# Altium schematic symbol library FMCW-Radar-v1.SchLib: 60 symbols (part 2 of 3)
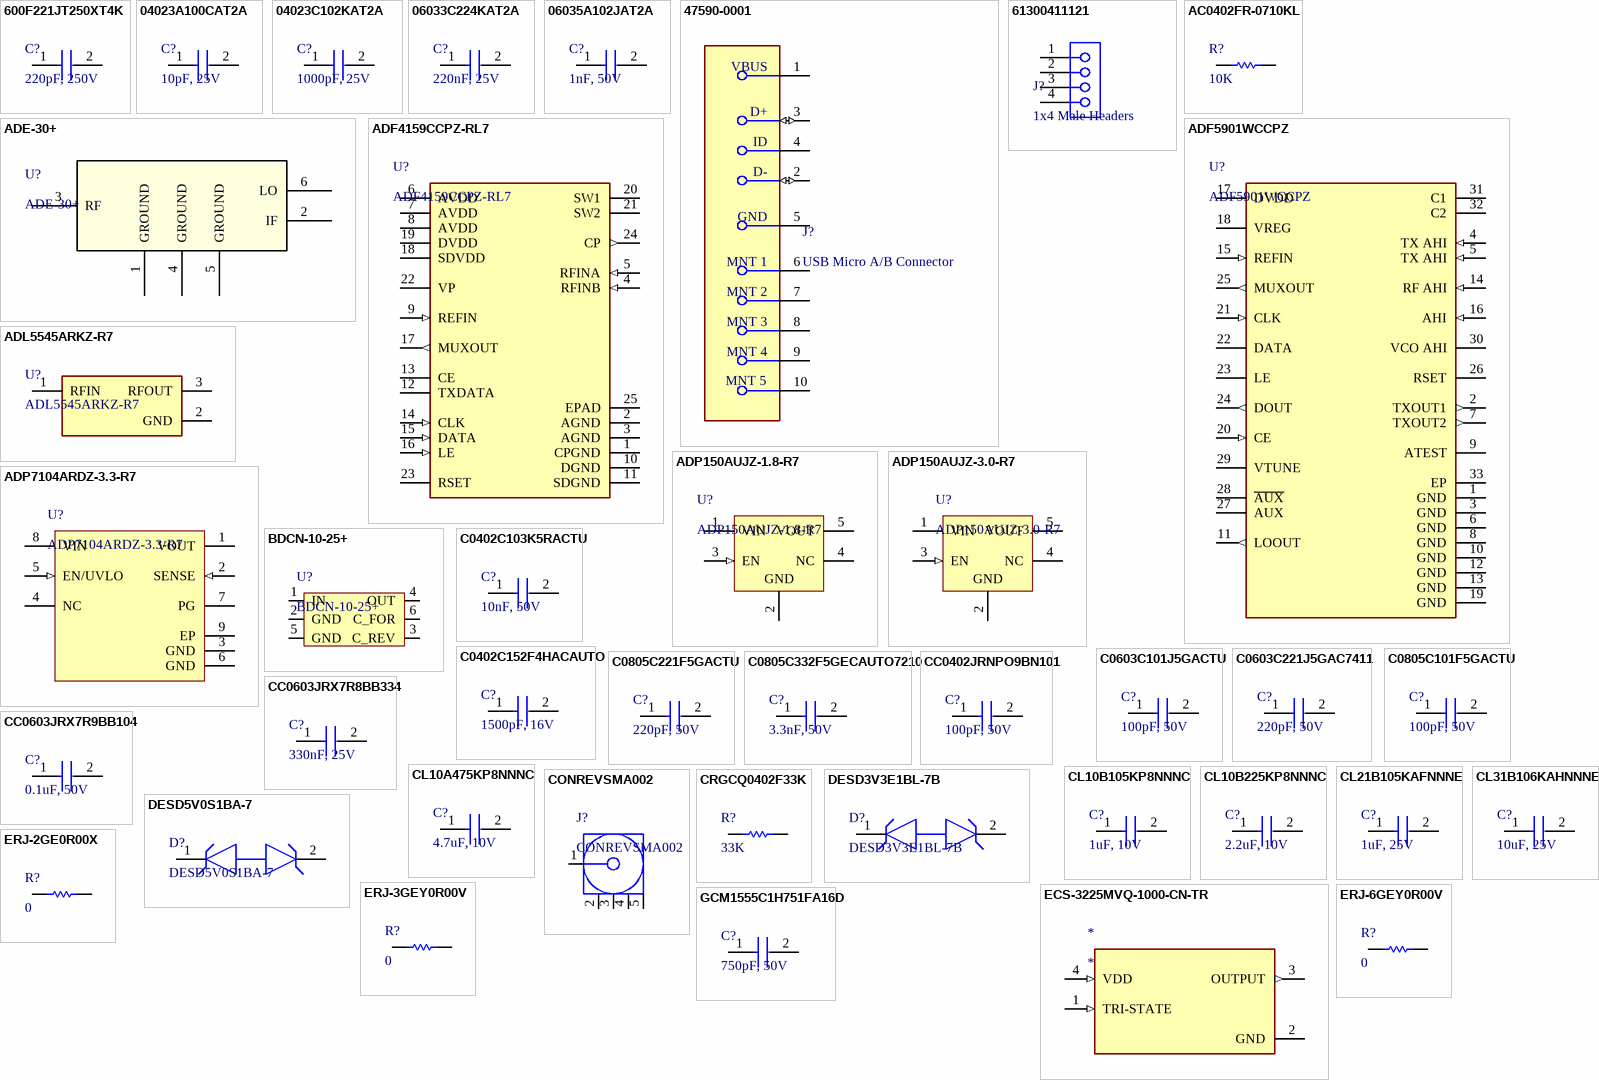
[diagram p2: symbols 600F221JT250XT4K to GCM1555C1H751FA16D]

## CC0402JRNPO9BN101
designator C?, comment 100pF, 50V
Ceramic Capacitor, Multilayer, Ceramic, 50V, 5% +Tol, 5% -Tol, C0G, 30ppm/Cel TC, 0.0001uF, Surface Mount, 0402; Manufacturer: Yageo; Manufacturer Part Number: CC0402JRNPO9BN101; Multilayer: Yes; Supplier: Digikey; Supplier Part Number: 311-1024-1-ND; RoHS: Yes; Category: Ceramic Capacitors; Stock: 5534890; Pricing: 1=0.08, 10=0.013, 100=0.008, 1000=0.0056, 2500=0.004, 10000=0.0032 (USD); Mounting Technology: Surface Mount; Pins: 2; Dielectric Material: Ceramic; Package Shape: Rectangular; Case/Package: 0402; Terminal Finish: Nickel; Min Operating Temperature: -55°C; Max Operating Temperature: 125°C; JESD-609 Code: e3; Value: 100pF; Capacitor Type: Ceramic; Tolerance  (fill in as +-): 5%; Package Style: SMTMeter; Packaging: Tape and Reel; Tolerance (fill in as +-): 5%; Rated DC Voltage (URdc): 50V; Temperature Characteristics Code: C0G; Termination: Wraparound; Length: 1mm; Width: 0.5mm; Height: 0.5mm; Reach SVHC Compliant: Yes; RoHS Compliant: Yes; ComponentLink1URL: https://datasheet.ciiva.com:443/pdfs/VipMasterIC/IC/YAGO/YAGO-S-A0009251638/YAGO-S-A0009251638-1.pdf?src-supplier=IHS+Markit; ComponentLink1Description: https://datasheet.ciiva.com:443/pdfs/VipMasterIC/IC/YAGO/YAGO-S-A0009251638/YAGO-S-A0009251638-1.pdf?src-supplier=IHS+Markit; ComponentLink2URL: https://datasheet.ciiva.com/23767/25787-23767888.pdf?src-supplier=Newark; ComponentLink2Description: https://datasheet.ciiva.com/23767/25787-23767888.pdf?src-supplier=Newark; ComponentLink3URL: https://datasheet.ciiva.com/11786/0900766b80d84fbf-11786101.pdf?src-supplier=Rs; ComponentLink3Description: https://datasheet.ciiva.com/11786/0900766b80d84fbf-11786101.pdf?src-supplier=Rs; ComponentLink4URL: https://datasheet.ciiva.com/28450/1443161-28450220.pdf?src-supplier=Element14; ComponentLink4Description: https://datasheet.ciiva.com/28450/1443161-28450220.pdf?src-supplier=Element14; ComponentLink5URL: https://datasheet.ciiva.com/143/mlccorderingcode-143989.pdf?src-supplier=Digikey; ComponentLink5Description: https://datasheet.ciiva.com/143/mlccorderingcode-143989.pdf?src-supplier=Digikey; ComponentLink6URL: https://datasheet.ciiva.com/143/mlccorderingcode-143990.pdf?src-supplier=Digikey; ComponentLink6Description: https://datasheet.ciiva.com/143/mlccorderingcode-143990.pdf?src-supplier=Digikey; ComponentLink7URL: https://datasheet.ciiva.com/143/mlccorderingcode-143991.pdf?src-supplier=Digikey; ComponentLink7Description: https://datasheet.ciiva.com/143/mlccorderingcode-143991.pdf?src-supplier=Digikey; ComponentLink8URL: https://datasheet.ciiva.com/8033/1443161-8033598.pdf?src-supplier=Element14; ComponentLink8Description: https://datasheet.ciiva.com/8033/1443161-8033598.pdf?src-supplier=Element14
footprint CAP_CC0402_YAG
pins: 1, 2

## CC0603JRX7R8BB334
designator C?, comment 330nF, 25V
Ceramic Capacitor, Multilayer, Ceramic, 25V, 5% +Tol, 5% -Tol, X7R, 15% TC, 0.33uF, Surface Mount, 0603; Manufacturer: Yageo; Manufacturer Part Number: CC0603JRX7R8BB334; Multilayer: Yes; Supplier: Digikey; Supplier Part Number: 13-CC0603JRX7R8BB334CT-ND; RoHS: Yes; Category: Ceramic Capacitors; Stock: 30027; Pricing: 1=0.15, 10=0.086, 100=0.0527, 1000=0.03562 (USD); Pins: 2; Dielectric Material: Ceramic; Case/Package: 0603; Terminal Finish: Nickel; Min Operating Temperature: -55°C; Max Operating Temperature: 125°C; JESD-609 Code: e3; Value: 330nF; Capacitor Type: Ceramic; Tolerance  (fill in as +-): 5%; Package Style: SMTMeter; Packaging: Tape and Reel; Tolerance (fill in as +-): 5%; Rated DC Voltage (URdc): 25V; Series: SIZE(X7R); Temperature Characteristics Code: X7R; Length: 1.6mm; Width: 0.8mm; Height: 0.8mm; Reach SVHC Compliant: Yes; RoHS Compliant: Yes
footprint CAP_CC0603_YAG-M
pins: 1, 2

## CC0603JRX7R9BB104
designator C?, comment 0.1uF, 50V
Ceramic Capacitor, Multilayer, Ceramic, 50V, 5% +Tol, 5% -Tol, X7R, 15% TC, 0.1uF, Surface Mount, 0603; Manufacturer: Yageo; Manufacturer Part Number: CC0603JRX7R9BB104; Value: 100nF; Multilayer: Yes; Supplier: Digikey; Supplier Part Number: 311-1779-1-ND; RoHS: Yes; Category: Ceramic Capacitors; Stock: 91480; Pricing: 1=0.1, 10=0.05, 100=0.0297, 1000=0.01795 (USD); Mounting Technology: Surface Mount; Pins: 2; Dielectric Material: Ceramic; Package Shape: Rectangular; Case/Package: 0603; Terminal Finish: Nickel; Min Operating Temperature: -55°C; Max Operating Temperature: 125°C; JESD-609 Code: e3; Capacitor Type: Ceramic; Tolerance  (fill in as +-): 5%; Package Style: SMTMeter; Packaging: Tape and Reel; Tolerance (fill in as +-): 5%; Rated DC Voltage (URdc): 50V; Temperature Characteristics Code: X7R; Termination: Wraparound; Length: 1.6mm; Width: 0.8mm; Height: 0.8mm; Reach SVHC Compliant: Yes; RoHS Compliant: Yes; ComponentLink1URL: https://datasheet.ciiva.com:443/pdfs/VipMasterIC/IC/YAGO/YAGO-S-A0003557223/YAGO-S-A0003557223-1.pdf?src-supplier=IHS+Markit; ComponentLink1Description: https://datasheet.ciiva.com:443/pdfs/VipMasterIC/IC/YAGO/YAGO-S-A0003557223/YAGO-S-A0003557223-1.pdf?src-supplier=IHS+Markit; ComponentLink2URL: https://datasheet.ciiva.com/11465/upy-gphc-x7r-6-3v-to-50v-8-11465038.pdf?src-supplier=Avnet; ComponentLink2Description: https://datasheet.ciiva.com/11465/upy-gphc-x7r-6-3v-to-50v-8-11465038.pdf?src-supplier=Avnet
footprint CAP_CC0603_YAG-M
pins: 1, 2

## CL10A475KP8NNNC
designator C?, comment 4.7uF, 10V
Ceramic Capacitor, Multilayer, Ceramic, 10V, 10% +Tol, 10% -Tol, X5R, 15% TC, 4.7uF, Surface Mount, 0603; Manufacturer: Samsung; Manufacturer Part Number: CL10A475KP8NNNC; Multilayer: Yes; Supplier: Digikey; Supplier Part Number: 1276-1044-1-ND; RoHS: Yes; Category: Ceramic Capacitors; Stock: 5168989; Pricing: 1=0.08, 10=0.01, 100=0.008, 1000=0.0064 (USD); Mounting Technology: Surface Mount; Pins: 2; Dielectric Material: Ceramic; Package Shape: Rectangular; Case/Package: 0603; Terminal Finish: Nickel; Min Operating Temperature: -55°C; Max Operating Temperature: 85°C; JESD-609 Code: e3; Value: 4.7uF; Capacitor Type: Ceramic; Tolerance  (fill in as +-): 10%; Package Style: SMTMeter; Packaging: Tape and Reel; Tolerance (fill in as +-): 10%; Rated DC Voltage (URdc): 10V; Temperature Characteristics Code: X5R; Termination: Wraparound; Length: 1.6mm; Width: 0.8mm; Height: 0.5mm; Reach SVHC Compliant: Yes; RoHS Compliant: Yes; ComponentLink1URL: https://datasheet.ciiva.com:443/pdfs/VipMasterIC/IC/SEMS/SEMS-S-A0008521003/SEMS-S-A0008520862-1.pdf?src-supplier=IHS+Markit; ComponentLink1Description: https://datasheet.ciiva.com:443/pdfs/VipMasterIC/IC/SEMS/SEMS-S-A0008521003/SEMS-S-A0008520862-1.pdf?src-supplier=IHS+Markit; ComponentLink2URL: https://datasheet.ciiva.com/25797/cl10a475kp8nnnc-25797520.pdf?src-supplier=Digikey; ComponentLink2Description: https://datasheet.ciiva.com/25797/cl10a475kp8nnnc-25797520.pdf?src-supplier=Digikey; ComponentLink3URL: https://datasheet.ciiva.com/26838/getdatasheetpartid-358676-26838384.pdf?src-supplier=Verical; ComponentLink3Description: https://datasheet.ciiva.com/26838/getdatasheetpartid-358676-26838384.pdf?src-supplier=Verical; ComponentLink4URL: https://datasheet.ciiva.com/16318/cl05b104kq5nnnc-16318245.pdf?src-supplier=Future+Electronics; ComponentLink4Description: https://datasheet.ciiva.com/16318/cl05b104kq5nnnc-16318245.pdf?src-supplier=Future+Electronics
footprint CAPC1608X90N
pins: 1, 2

## CL10B105KP8NNNC
designator C?, comment 1uF, 10V
Ceramic Capacitor, Multilayer, Ceramic, 10V, 10% +Tol, 10% -Tol, X7R, 15% TC, 1uF, Surface Mount, 0603; Manufacturer: Samsung; Manufacturer Part Number: CL10B105KP8NNNC; Multilayer: Yes; Supplier: Digikey; Supplier Part Number: 1276-1946-6-ND; RoHS: Yes; Category: Ceramic Capacitors; Stock: 5561968; Pricing: 1=0.08, 10=0.006, 100=0.0056, 1000=0.00528 (USD); Mounting Technology: Surface Mount; Pins: 2; Dielectric Material: Ceramic; Package Shape: Rectangular; Case/Package: 0603; Terminal Finish: Nickel; Min Operating Temperature: -55°C; Max Operating Temperature: 125°C; JESD-609 Code: e3; Value: 1uF; Capacitor Type: Ceramic; Tolerance  (fill in as +-): 10%; Package Style: SMTMeter; Packaging: Tape and Reel; Tolerance (fill in as +-): 10%; Rated DC Voltage (URdc): 10V; Temperature Characteristics Code: X7R; Termination: Wraparound; Length: 1.6mm; Width: 0.8mm; Height: 0.9mm; Reach SVHC Compliant: Yes; RoHS Compliant: Yes; ComponentLink1URL: https://datasheet.ciiva.com:443/pdfs/VipMasterIC/IC/SEMS/SEMS-S-A0008526420/SEMS-S-A0008526450-1.pdf?src-supplier=IHS+Markit; ComponentLink1Description: https://datasheet.ciiva.com:443/pdfs/VipMasterIC/IC/SEMS/SEMS-S-A0008526420/SEMS-S-A0008526450-1.pdf?src-supplier=IHS+Markit; ComponentLink2URL: https://datasheet.ciiva.com/25788/cl10b105kp8nnnc-25788304.pdf?src-supplier=Digikey; ComponentLink2Description: https://datasheet.ciiva.com/25788/cl10b105kp8nnnc-25788304.pdf?src-supplier=Digikey; ComponentLink3URL: https://datasheet.ciiva.com/26838/getdatasheetpartid-358410-26838426.pdf?src-supplier=Verical; ComponentLink3Description: https://datasheet.ciiva.com/26838/getdatasheetpartid-358410-26838426.pdf?src-supplier=Verical; ComponentLink4URL: https://datasheet.ciiva.com/16396/cl10b105kp8nnnc-16396970.pdf?src-supplier=Future+Electronics; ComponentLink4Description: https://datasheet.ciiva.com/16396/cl10b105kp8nnnc-16396970.pdf?src-supplier=Future+Electronics
footprint FP-CL10-IPC_A
pins: 1, 2

## CL10B225KP8NNNC
designator C?, comment 2.2uF, 10V
Ceramic Capacitor, Multilayer, Ceramic, 10V, 10% +Tol, 10% -Tol, X7R, 15% TC, 2.2uF, Surface Mount, 0603; Manufacturer: Samsung; Manufacturer Part Number: CL10B225KP8NNNC; Multilayer: Yes; Supplier: Digikey; Supplier Part Number: 1276-1134-1-ND; RoHS: Yes; Category: Ceramic Capacitors; Stock: 86850; Pricing: 1=0.08, 10=0.017, 100=0.0136, 1000=0.01206 (USD); Mounting Technology: Surface Mount; Pins: 2; Dielectric Material: Ceramic; Package Shape: Rectangular; Case/Package: 0603; Terminal Finish: Nickel; Min Operating Temperature: -55°C; Max Operating Temperature: 125°C; JESD-609 Code: e3; Value: 2.2uF; Capacitor Type: Ceramic; Tolerance  (fill in as +-): 10%; Package Style: SMTMeter; Packaging: Tape and Reel; Tolerance (fill in as +-): 10%; Rated DC Voltage (URdc): 10V; Temperature Characteristics Code: X7R; Termination: Wraparound; Length: 1.6mm; Width: 0.8mm; Height: 0.9mm; Reach SVHC Compliant: Yes; RoHS Compliant: Yes; ComponentLink1URL: https://datasheet.ciiva.com:443/pdfs/VipMasterIC/IC/SEMS/SEMS-S-A0008384515/SEMS-S-A0008873307-1.pdf?src-supplier=IHS+Markit; ComponentLink1Description: https://datasheet.ciiva.com:443/pdfs/VipMasterIC/IC/SEMS/SEMS-S-A0008384515/SEMS-S-A0008873307-1.pdf?src-supplier=IHS+Markit; ComponentLink2URL: https://datasheet.ciiva.com/25798/cl10b225kp8nnnc-25798914.pdf?src-supplier=Digikey; ComponentLink2Description: https://datasheet.ciiva.com/25798/cl10b225kp8nnnc-25798914.pdf?src-supplier=Digikey; ComponentLink3URL: https://datasheet.ciiva.com/15227/getdatasheetpartid-359568-15227195.pdf?src-supplier=Verical; ComponentLink3Description: https://datasheet.ciiva.com/15227/getdatasheetpartid-359568-15227195.pdf?src-supplier=Verical; ComponentLink4URL: https://datasheet.ciiva.com/16500/cl10b225kp8nnnc-16500695.pdf?src-supplier=Future+Electronics; ComponentLink4Description: https://datasheet.ciiva.com/16500/cl10b225kp8nnnc-16500695.pdf?src-supplier=Future+Electronics; ComponentLink5URL: https://datasheet.ciiva.com/29198/457933-da-01-en-vs-kondensator-0603-29198589.pdf?src-supplier=Conrad; ComponentLink5Description: https://datasheet.ciiva.com/29198/457933-da-01-en-vs-kondensator-0603-29198589.pdf?src-supplier=Conrad
footprint FP-CL10-IPC_A
pins: 1, 2

## CL21B105KAFNNNE
designator C?, comment 1uF, 25V
Ceramic Capacitor, Multilayer, Ceramic, 25V, 10% +Tol, 10% -Tol, X7R, 15% TC, 1uF, Surface Mount, 0805; Manufacturer: Samsung; Manufacturer Part Number: CL21B105KAFNNNE; Multilayer: Yes; Supplier: Digikey; Supplier Part Number: 1276-1066-1-ND; RoHS: Yes; Category: Ceramic Capacitors; Stock: 34526; Pricing: 1=0.08, 10=0.026, 100=0.0192, 1000=0.0144, 2000=0.00735 (USD); Mounting Technology: Surface Mount; Pins: 2; Dielectric Material: Ceramic; Package Shape: Rectangular; Case/Package: 0805; Terminal Finish: Nickel; Min Operating Temperature: -55°C; Max Operating Temperature: 125°C; JESD-609 Code: e3; Value: 1uF; Capacitor Type: Ceramic; Tolerance  (fill in as +-): 10%; Package Style: SMTMeter; Packaging: Tape and Reel; Tolerance (fill in as +-): 10%; Rated DC Voltage (URdc): 25V; Temperature Characteristics Code: X7R; Termination: Wraparound; Length: 2mm; Width: 1.25mm; Height: 1.35mm; Reach SVHC Compliant: Yes; RoHS Compliant: Yes; ComponentLink1URL: https://datasheet.ciiva.com:443/pdfs/VipMasterIC/IC/SEMS/SEMS-S-A0008523501/SEMS-S-A0008523563-1.pdf?src-supplier=IHS+Markit; ComponentLink1Description: https://datasheet.ciiva.com:443/pdfs/VipMasterIC/IC/SEMS/SEMS-S-A0008523501/SEMS-S-A0008523563-1.pdf?src-supplier=IHS+Markit; ComponentLink2URL: https://datasheet.ciiva.com/25800/cl21b105kafnnne-25800163.pdf?src-supplier=Digikey; ComponentLink2Description: https://datasheet.ciiva.com/25800/cl21b105kafnnne-25800163.pdf?src-supplier=Digikey; ComponentLink3URL: https://datasheet.ciiva.com/15195/getdatasheetpartid-355205-15195880.pdf?src-supplier=Verical; ComponentLink3Description: https://datasheet.ciiva.com/15195/getdatasheetpartid-355205-15195880.pdf?src-supplier=Verical
footprint CAP_CL21B105KAFNNNE_SAM
pins: 1, 2

## CL31B106KAHNNNE
designator C?, comment 10uF, 25V
Ceramic Capacitor, Multilayer, Ceramic, 25V, 10% +Tol, 10% -Tol, X7R, 15% TC, 10uF, Surface Mount, 1206; Manufacturer: Samsung; Manufacturer Part Number: CL31B106KAHNNNE; Multilayer: Yes; Supplier: Digikey; Supplier Part Number: 1276-1804-1-ND; RoHS: Yes; Category: Ceramic Capacitors; Stock: 2651645; Pricing: 1=0.1, 10=0.043, 100=0.0358 (USD); Mounting Technology: Surface Mount; Pins: 2; Dielectric Material: Ceramic; Package Shape: Rectangular; Case/Package: 1206; Terminal Finish: Nickel; Min Operating Temperature: -55°C; Max Operating Temperature: 125°C; JESD-609 Code: e3; Value: 10uF; Capacitor Type: Ceramic; Tolerance  (fill in as +-): 10%; Package Style: SMTMeter; Packaging: Tape and Reel; Tolerance (fill in as +-): 10%; Rated DC Voltage (URdc): 25V; Temperature Characteristics Code: X7R; Termination: Wraparound; Length: 3.2mm; Width: 1.6mm; Height: 1.8mm; Reach SVHC Compliant: Yes; RoHS Compliant: Yes; ComponentLink1URL: https://datasheet.ciiva.com:443/pdfs/VipMasterIC/IC/SEMS/SEMS-S-A0008384515/SEMS-S-A0008872888-1.pdf?src-supplier=IHS+Markit; ComponentLink1Description: https://datasheet.ciiva.com:443/pdfs/VipMasterIC/IC/SEMS/SEMS-S-A0008384515/SEMS-S-A0008872888-1.pdf?src-supplier=IHS+Markit; ComponentLink2URL: https://datasheet.ciiva.com/25795/cl31b106kahnnne-25795260.pdf?src-supplier=Digikey; ComponentLink2Description: https://datasheet.ciiva.com/25795/cl31b106kahnnne-25795260.pdf?src-supplier=Digikey; ComponentLink3URL: https://datasheet.ciiva.com/26838/getdatasheetpartid-356415-26838914.pdf?src-supplier=Verical; ComponentLink3Description: https://datasheet.ciiva.com/26838/getdatasheetpartid-356415-26838914.pdf?src-supplier=Verical; ComponentLink4URL: https://datasheet.ciiva.com/16498/cl03a105mq3csnc-16498474.pdf?src-supplier=Future+Electronics; ComponentLink4Description: https://datasheet.ciiva.com/16498/cl03a105mq3csnc-16498474.pdf?src-supplier=Future+Electronics
footprint CAP_CL31_SAM
pins: 1, 2

## CONREVSMA002
designator J?
RF SMA Connector; Manufacturer: Linx; Supplier: Digikey; Supplier Part Number: CONREVSMA002-ND; Manufacturer Part Number: CONREVSMA002; RoHS: Yes; Category: RF / Coaxial Connectors; Stock: 5396; Pricing: 1=2.78, 250=2.58, 500=2.41002, 1000=2.2625 (USD); Connector Type: SMA; Reach SVHC Compliant: Yes; RoHS Compliant: Yes; ComponentLink1URL: https://datasheet.ciiva.com:443/pdfs/VipMasterIC/IC/LNNC/LNNC-S-A0004850234/LNNC-S-A0004850234-1.pdf?src-supplier=IHS+Markit; ComponentLink1Description: https://datasheet.ciiva.com:443/pdfs/VipMasterIC/IC/LNNC/LNNC-S-A0004850234/LNNC-S-A0004850234-1.pdf?src-supplier=IHS+Markit; ComponentLink2URL: https://datasheet.ciiva.com/644/conrevsma002-644109.pdf?src-supplier=Digikey; ComponentLink2Description: https://datasheet.ciiva.com/644/conrevsma002-644109.pdf?src-supplier=Digikey; ComponentLink3URL: https://datasheet.ciiva.com/16225/conrevsma002-16225213.pdf?src-supplier=Future+Electronics; ComponentLink3Description: https://datasheet.ciiva.com/16225/conrevsma002-16225213.pdf?src-supplier=Future+Electronics
footprint CON-REVSMA-RA (Connector, RP-SMA Female, 5-Lead, Thru-Hole, Right-Angle, Body 7x7mm)
pins: 1 Signal "Signal Pin", 2 GND (power), 3 GND (power), 4 GND (power), 5 GND (power)

## CRGCQ0402F33K
designator R?, comment 33K
Fixed Resistor, Metal Glaze/thick Film, 0.0625W, 33000ohm, 50V, 1% +/-Tol, 100ppm/Cel, Surface Mount, 0402; Manufacturer: TE Connectivity; Manufacturer Part Number: CRGCQ0402F33K; Supplier: Digikey; Supplier Part Number: A129645CT-ND; RoHS: Yes; Category: Chip SMD Resistors; Stock: 860508; Pricing: 1=0.1, 10=0.025, 100=0.0121, 1000=0.00663, 2500=0.00542, 5000=0.00473 (USD); Pins: 2; Resistor Type: FIXED RESISTOR; Reach SVHC Compliant: Yes; RoHS Compliant: Yes; ComponentLink1URL: https://datasheet.ciiva.com:443/pdfs/VipMasterIC/IC/TYEL/TYEL-S-A0009513709/TYEL-S-A0009515791-1.pdf?src-supplier=IHS+Markit; ComponentLink1Description: https://datasheet.ciiva.com:443/pdfs/VipMasterIC/IC/TYEL/TYEL-S-A0009513709/TYEL-S-A0009515791-1.pdf?src-supplier=IHS+Markit; ComponentLink2URL: https://www.te.com/commerce/DocumentDelivery/DDEController?Action=srchrtrv&amp;DocNm=1773204-3&amp;DocType=DS&amp;DocLang=English&src-supplier=Digikey; ComponentLink2Description: https://www.te.com/commerce/DocumentDelivery/DDEController?Action=srchrtrv&amp;DocNm=1773204-3&amp;DocType=DS&amp;DocLang=English&src-supplier=Digikey; ComponentLink3URL: https://datasheet.octopart.com/CRGCQ0402F33K-TE-Connectivity-datasheet-114679081.pdf?src-supplier=Master+Electronics; ComponentLink3Description: https://datasheet.octopart.com/CRGCQ0402F33K-TE-Connectivity-datasheet-114679081.pdf?src-supplier=Master+Electronics
footprint RESC1005X40N
pins: 1, 2

## DESD3V3E1BL-7B
designator D?
Trans Voltage Suppressor Diode, 35W, 3.3V V(RWM), Bidirectional, 1 Element, Silicon; Manufacturer: Diodes; Supplier: Digikey; Supplier Part Number: 31-DESD3V3E1BL-7BCT-ND; Manufacturer Part Number: DESD3V3E1BL-7B; RoHS: Yes; Category: TVS Diodes; Stock: 131192; Pricing: 1=0.12, 10=0.083, 100=0.034, 500=0.033, 1000=0.031, 2000=0.0305, 5000=0.03 (USD); ComponentLink1URL: https://datasheet.ciiva.com:443/pdfs/VipMasterIC/IC/DIOD/DIOD-S-A0007810551/DIOD-S-A0007810551-1.pdf?src-supplier=IHS+Markit; ComponentLink1Description: https://datasheet.ciiva.com:443/pdfs/VipMasterIC/IC/DIOD/DIOD-S-A0007810551/DIOD-S-A0007810551-1.pdf?src-supplier=IHS+Markit; ComponentLink2URL: https://datasheet.octopart.com/DESD3V3E1BL-7B-Diodes-Inc.-datasheet-151210080.pdf?src-supplier=Farnell; ComponentLink2Description: https://datasheet.octopart.com/DESD3V3E1BL-7B-Diodes-Inc.-datasheet-151210080.pdf?src-supplier=Farnell; ComponentLink3URL: https://datasheet.octopart.com/DESD3V3E1BL-7B-Diodes-Inc.-datasheet-151210080.pdf?src-supplier=Newark; ComponentLink3Description: https://datasheet.octopart.com/DESD3V3E1BL-7B-Diodes-Inc.-datasheet-151210080.pdf?src-supplier=Newark; ComponentLink4URL: https://www.diodes.com/assets/Datasheets/DESD3V3E1BL.pdf?src-supplier=Digikey; ComponentLink4Description: https://www.diodes.com/assets/Datasheets/DESD3V3E1BL.pdf?src-supplier=Digikey
footprint CR_X1-DFN1006-2_DIO
pins: 1, 2

## DESD5V0S1BA-7
designator D?
Trans Voltage Suppressor Diode, 130W, 5V V(RWM), Bidirectional, 2 Element, Silicon; Manufacturer: Diodes Zetex; Package Body Material: Plastic; Max Breakdown Voltage: 9.5V; Min Breakdown Voltage: 5.5V; Breakdown Voltage-Nom: 7.5V; Clamping Voltage-Max: 14V; Number of Elements: 2; Max Power Dissipation: 200mW; Time @ Peak Reflow Temperature-Max (s): 40s; Reference Standard: IEC-61000-4-5; Supplier: Digikey; Supplier Part Number: DESD5V0S1BA-7DICT-ND; Manufacturer Part Number: DESD5V0S1BA-7; RoHS: Yes; Category: TVS Diodes; Stock: 799643; Pricing: 1=0.1, 10=0.066, 100=0.05 (USD); Pins: 2; Diode Element Material: SILICON; Package Shape: Rectangular; Terminal Finish: Tin; Min Operating Temperature: -65°C; Max Operating Temperature: 150°C; JESD-609 Code: e3; Polarity: Bidirectional; Diode Type: TRANS VOLTAGE SUPPRESSOR; JESD-30 Code: R-PDSO-G2; Moisture Sensitivity Level: 1; Non-rep Peak Rev Power Dis-Max: 130W; Package Style: SMALL OUTLINEMeter; Peak Reflow Temperature (Cel): 260°C; Rep Pk Reverse Voltage-Max: 5V; Surface Mount: Yes; Technology: AVALANCHE; Terminal Form: Gull Wing; Terminal Position: DUAL; Reach SVHC Compliant: Yes; RoHS Compliant: Yes; ComponentLink1URL: https://datasheet.ciiva.com:443/pdfs/VipMasterIC/IC/DIOD/DIODS15480/DIODS15480-1.pdf?src-supplier=IHS+Markit; ComponentLink1Description: https://datasheet.ciiva.com:443/pdfs/VipMasterIC/IC/DIOD/DIODS15480/DIODS15480-1.pdf?src-supplier=IHS+Markit; ComponentLink2URL: https://datasheet.ciiva.com/6574/ds31275-6574481.pdf?src-supplier=Digikey; ComponentLink2Description: https://datasheet.ciiva.com/6574/ds31275-6574481.pdf?src-supplier=Digikey; ComponentLink3URL: https://datasheet.ciiva.com/13078/ds31275-219185-13078529.pdf?src-supplier=Mouser; ComponentLink3Description: https://datasheet.ciiva.com/13078/ds31275-219185-13078529.pdf?src-supplier=Mouser; ComponentLink4URL: https://datasheet.ciiva.com/30478/0900766b8115c371-30478883.pdf?src-supplier=Rs; ComponentLink4Description: https://datasheet.ciiva.com/30478/0900766b8115c371-30478883.pdf?src-supplier=Rs; ComponentLink5URL: https://datasheet.ciiva.com/15186/getdatasheetpartid-662239-15186712.pdf?src-supplier=Verical; ComponentLink5Description: https://datasheet.ciiva.com/15186/getdatasheetpartid-662239-15186712.pdf?src-supplier=Verical
footprint FP-SOD323-IPC_C
pins: 1, 2

## ECS-3225MVQ-1000-CN-TR
designator *
CMOS Output Clock Oscillator, 100MHz Nom; Manufacturer: ECS International; Manufacturer Part Number: ECS-3225MVQ-1000-CN-TR; Supplier: Digikey; Supplier Part Number: 50-ECS-3225MVQ-1000-CN-CT-ND; RoHS: Yes; Category: Oscillators; Stock: 9315; Pricing: 1=1.45, 10=1.264, 50=1.146, 100=1.0986, 500=0.99596 (USD); ComponentLink1URL: https://datasheet.octopart.com/ECS-3225MVQ-1000-CN-TR-ECS-International-datasheet-164298191.pdf?src-supplier=Master+Electronics; ComponentLink1Description: https://datasheet.octopart.com/ECS-3225MVQ-1000-CN-TR-ECS-International-datasheet-164298191.pdf?src-supplier=Master+Electronics
footprint OSC_ECS-3225MVQ-1000-CN-TR
pins: 1 TRI-STATE (in), 2 GND (power), 3 OUTPUT (out), 4 VDD (in)

## ERJ-2GE0R00X
designator R?, comment 0
Fixed Resistor, Metal Glaze/thick Film, 0.1W, 0ohm, Surface Mount, 0402; Manufacturer: Panasonic; Manufacturer Part Number: ERJ-2GE0R00X; Power: 100mW; Rated Temperature: 70°C; Value: 0R; Package Height: 0.35mm; Package Length: 1mm; Package Width: 0.5mm; Reference Standard: AEC-Q200; Supplier: Digikey; Supplier Part Number: P0.0JCT-ND; RoHS: Yes; Category: Chip SMD Resistors; Stock: 1585351; Pricing: 1=0.1, 10=0.014, 25=0.0116, 50=0.0102, 100=0.0089, 250=0.00748, 500=0.00658, 1000=0.00581, 5000=0.00445 (USD); Mounting Technology: Surface Mount; Pins: 2; Package Shape: Rectangular; Case/Package: 0402; Terminal Finish: Nickel; Min Operating Temperature: -55°C; Max Operating Temperature: 155°C; JESD-609 Code: e3; Resistor Type: FIXED RESISTOR; Construction: Rectangular; Packaging: Tape and Reel; Technology: METAL GLAZE/THICK FILM; Termination: Wraparound; Reach SVHC Compliant: Yes; RoHS Compliant: Yes; ComponentLink1URL: https://datasheet.ciiva.com:443/pdfs/VipMasterIC/IC/PANA/PANA-S-A0009459603/PANA-S-A0009459603-1.pdf?src-supplier=IHS+Markit; ComponentLink1Description: https://datasheet.ciiva.com:443/pdfs/VipMasterIC/IC/PANA/PANA-S-A0009459603/PANA-S-A0009459603-1.pdf?src-supplier=IHS+Markit; ComponentLink2URL: https://datasheet.ciiva.com/11821/0900766b80f806dd-11821176.pdf?src-supplier=Rs; ComponentLink2Description: https://datasheet.ciiva.com/11821/0900766b80f806dd-11821176.pdf?src-supplier=Rs; ComponentLink3URL: https://datasheet.ciiva.com/5959/1678796-5959692.pdf?src-supplier=Farnell; ComponentLink3Description: https://datasheet.ciiva.com/5959/1678796-5959692.pdf?src-supplier=Farnell; ComponentLink4URL: https://datasheet.ciiva.com/48531/aoa0000ce1-48531077.pdf?src-supplier=Avnet; ComponentLink4Description: https://datasheet.ciiva.com/48531/aoa0000ce1-48531077.pdf?src-supplier=Avnet; ComponentLink5URL: https://datasheet.ciiva.com/43460/1678796-43460347.pdf?src-supplier=Farnell; ComponentLink5Description: https://datasheet.ciiva.com/43460/1678796-43460347.pdf?src-supplier=Farnell; ComponentLink6URL: https://datasheet.ciiva.com/16778/70260739-16778335.pdf?src-supplier=Allied+Electronics; ComponentLink6Description: https://datasheet.ciiva.com/16778/70260739-16778335.pdf?src-supplier=Allied+Electronics; ComponentLink7URL: https://datasheet.ciiva.com/16783/70260739-16783734.pdf?src-supplier=Allied+Electronics; ComponentLink7Description: https://datasheet.ciiva.com/16783/70260739-16783734.pdf?src-supplier=Allied+Electronics; ComponentLink8URL: https://datasheet.ciiva.com/28695/1678796-28695758.pdf?src-supplier=Element14; ComponentLink8Description: https://datasheet.ciiva.com/28695/1678796-28695758.pdf?src-supplier=Element14; ComponentLink9URL: https://datasheet.ciiva.com/46389/1678796-46389518.pdf?src-supplier=Element14; ComponentLink9Description: https://datasheet.ciiva.com/46389/1678796-46389518.pdf?src-supplier=Element14; ComponentLink10URL: https://datasheet.ciiva.com/30097/4aoa0000ce1-30097116.pdf?src-supplier=Onlinecomponents.com; ComponentLink10Description: https://datasheet.ciiva.com/30097/4aoa0000ce1-30097116.pdf?src-supplier=Onlinecomponents.com
footprint RES_ERJ-2GE0R00X
pins: 1, 2

## ERJ-3GEY0R00V
designator R?, comment 0
Fixed Resistor, Metal Glaze/thick Film, 0.1W, 0ohm, Surface Mount, 0603; Manufacturer: Panasonic; Manufacturer Part Number: ERJ-3GEY0R00V; Power: 100mW; Rated Temperature: 70°C; Value: 0R; Package Height: 0.45mm; Package Length: 1.6mm; Package Width: 0.8mm; Reference Standard: AEC-Q200; Supplier: Digikey; Supplier Part Number: P0.0GCT-ND; RoHS: Yes; Category: Chip SMD Resistors; Stock: 690397; Pricing: 1=0.1, 10=0.02, 25=0.0164, 50=0.0144, 100=0.0126, 250=0.0106, 500=0.00936, 1000=0.0083, 5000=0.0064, 10000=0.00578, 15000=0.00546, 25000=0.0051, 35000=0.00489, 50000=0.00468, 125000=0.00421, 250000=0.00392, 500000=0.00367 (USD); Mounting Technology: Surface Mount; Pins: 2; Package Shape: Rectangular; Case/Package: 0603; Terminal Finish: Nickel; Min Operating Temperature: -55°C; Max Operating Temperature: 155°C; JESD-609 Code: e3; Resistor Type: FIXED RESISTOR; Construction: Rectangular; Packaging: Tape and Reel; Technology: METAL GLAZE/THICK FILM; Termination: Wraparound; Reach SVHC Compliant: Yes; RoHS Compliant: Yes; ComponentLink1URL: https://datasheet.ciiva.com:443/pdfs/VipMasterIC/IC/PANA/PANA-S-A0009459603/PANA-S-A0009459603-1.pdf?src-supplier=IHS+Markit; ComponentLink1Description: https://datasheet.ciiva.com:443/pdfs/VipMasterIC/IC/PANA/PANA-S-A0009459603/PANA-S-A0009459603-1.pdf?src-supplier=IHS+Markit; ComponentLink2URL: https://datasheet.ciiva.com/11808/0900766b80f806dd-11808207.pdf?src-supplier=Rs; ComponentLink2Description: https://datasheet.ciiva.com/11808/0900766b80f806dd-11808207.pdf?src-supplier=Rs; ComponentLink3URL: https://datasheet.ciiva.com/27055/1935748-27055113.pdf?src-supplier=Jameco; ComponentLink3Description: https://datasheet.ciiva.com/27055/1935748-27055113.pdf?src-supplier=Jameco; ComponentLink4URL: https://datasheet.ciiva.com/43460/1678796-43460647.pdf?src-supplier=Farnell; ComponentLink4Description: https://datasheet.ciiva.com/43460/1678796-43460647.pdf?src-supplier=Farnell; ComponentLink5URL: https://datasheet.ciiva.com/28695/1678796-28695833.pdf?src-supplier=Element14; ComponentLink5Description: https://datasheet.ciiva.com/28695/1678796-28695833.pdf?src-supplier=Element14; ComponentLink6URL: https://datasheet.ciiva.com/5959/1678796-5959707.pdf?src-supplier=Farnell; ComponentLink6Description: https://datasheet.ciiva.com/5959/1678796-5959707.pdf?src-supplier=Farnell; ComponentLink7URL: https://datasheet.ciiva.com/48532/aoa0000ce1-48532165.pdf?src-supplier=Avnet; ComponentLink7Description: https://datasheet.ciiva.com/48532/aoa0000ce1-48532165.pdf?src-supplier=Avnet; ComponentLink8URL: https://datasheet.ciiva.com/30199/4aoa0000ce1-30199822.pdf?src-supplier=Onlinecomponents.com; ComponentLink8Description: https://datasheet.ciiva.com/30199/4aoa0000ce1-30199822.pdf?src-supplier=Onlinecomponents.com; ComponentLink9URL: https://datasheet.ciiva.com/16834/aoa0000ce1-16834828.pdf?src-supplier=Future+Electronics; ComponentLink9Description: https://datasheet.ciiva.com/16834/aoa0000ce1-16834828.pdf?src-supplier=Future+Electronics; ComponentLink10URL: https://datasheet.ciiva.com/16758/70255313-16758527.pdf?src-supplier=Allied+Electronics; ComponentLink10Description: https://datasheet.ciiva.com/16758/70255313-16758527.pdf?src-supplier=Allied+Electronics; ComponentLink11URL: https://datasheet.ciiva.com/46377/1678796-46377868.pdf?src-supplier=Element14; ComponentLink11Description: https://datasheet.ciiva.com/46377/1678796-46377868.pdf?src-supplier=Element14; ComponentLink12URL: https://datasheet.ciiva.com/9198/aoa0000ce1-9198975.pdf?src-supplier=Avnet; ComponentLink12Description: https://datasheet.ciiva.com/9198/aoa0000ce1-9198975.pdf?src-supplier=Avnet
footprint RESC1005X40X25ML05T05 (Chip Resistor, 2-Leads, Body 1.05x0.55mm, IPC Low Density)
pins: 1, 2

## ERJ-6GEY0R00V
designator R?, comment 0
Fixed Resistor, Metal Glaze/thick Film, 0.125W, 0ohm, Surface Mount, 0805; Manufacturer: Panasonic; Manufacturer Part Number: ERJ-6GEY0R00V; Power: 125mW; Rated Temperature: 70°C; Value: 0R; Package Height: 0.6mm; Package Length: 2mm; Package Width: 1.25mm; Reference Standard: AEC-Q200; Supplier: Digikey; Supplier Part Number: P0.0ACT-ND; RoHS: Yes; Category: Chip SMD Resistors; Stock: 3178323; Pricing: 1=0.1, 10=0.028, 25=0.0236, 50=0.0204, 100=0.0179, 250=0.01516, 500=0.01342, 1000=0.01193 (USD); Mounting Technology: Surface Mount; Pins: 2; Package Shape: Rectangular; Case/Package: 0805; Terminal Finish: Nickel; Min Operating Temperature: -55°C; Max Operating Temperature: 155°C; JESD-609 Code: e3; Resistor Type: FIXED RESISTOR; Construction: Rectangular; Packaging: Tape and Reel; Technology: METAL GLAZE/THICK FILM; Termination: Wraparound; Reach SVHC Compliant: Yes; RoHS Compliant: Yes; ComponentLink1URL: https://datasheet.ciiva.com:443/pdfs/VipMasterIC/IC/PANA/PANA-S-A0009459603/PANA-S-A0009459603-1.pdf?src-supplier=IHS+Markit; ComponentLink1Description: https://datasheet.ciiva.com:443/pdfs/VipMasterIC/IC/PANA/PANA-S-A0009459603/PANA-S-A0009459603-1.pdf?src-supplier=IHS+Markit; ComponentLink2URL: https://datasheet.ciiva.com/11821/0900766b80f806dd-11821735.pdf?src-supplier=Rs; ComponentLink2Description: https://datasheet.ciiva.com/11821/0900766b80f806dd-11821735.pdf?src-supplier=Rs; ComponentLink3URL: https://datasheet.ciiva.com/28695/1678796-28695877.pdf?src-supplier=Element14; ComponentLink3Description: https://datasheet.ciiva.com/28695/1678796-28695877.pdf?src-supplier=Element14; ComponentLink4URL: https://datasheet.ciiva.com/46377/1678796-46377866.pdf?src-supplier=Element14; ComponentLink4Description: https://datasheet.ciiva.com/46377/1678796-46377866.pdf?src-supplier=Element14; ComponentLink5URL: https://datasheet.ciiva.com/43460/1678796-43460073.pdf?src-supplier=Farnell; ComponentLink5Description: https://datasheet.ciiva.com/43460/1678796-43460073.pdf?src-supplier=Farnell; ComponentLink6URL: https://datasheet.ciiva.com/9117/aoa0000ce1-9117354.pdf?src-supplier=Avnet; ComponentLink6Description: https://datasheet.ciiva.com/9117/aoa0000ce1-9117354.pdf?src-supplier=Avnet
footprint RES_ERJ-6GEY0R00V
pins: 1, 2

## GCM1555C1H751FA16D
designator C?, comment 750pF, 50V
Ceramic Capacitor, Multilayer, Ceramic, 50V, 1% +Tol, 1% -Tol, C0G, 30ppm/Cel TC, 0.00075uF, Surface Mount, 0402; Manufacturer: Murata; Manufacturer Part Number: GCM1555C1H751FA16D; Multilayer: Yes; Reference Standard: AEC-Q200; Supplier: Digikey; Supplier Part Number: 490-GCM1555C1H751FA16DCT-ND; RoHS: Yes; Category: Ceramic Capacitors; Stock: 11851; Pricing: 1=0.1, 10=0.044, 100=0.026, 1000=0.01666, 2500=0.01436, 5000=0.01297 (USD); Mounting Technology: Surface Mount; Pins: 2; Dielectric Material: Ceramic; Package Shape: Rectangular; Case/Package: 0402; Terminal Finish: Nickel; Min Operating Temperature: -55°C; Max Operating Temperature: 125°C; JESD-609 Code: e3; Value: 750pF; Capacitor Type: Ceramic; Tolerance  (fill in as +-): 1%; Packaging: Tape and Reel; Tolerance (fill in as +-): 1%; Rated DC Voltage (URdc): 50V; Temperature Characteristics Code: C0G; Termination: Wraparound; Reach SVHC Compliant: Yes; RoHS Compliant: Yes; ComponentLink1URL: https://psearch.en.murata.com:443/capacitor/product/GCM1555C1H751FA16%23.pdf?src-supplier=IHS+Markit; ComponentLink1Description: https://psearch.en.murata.com:443/capacitor/product/GCM1555C1H751FA16%23.pdf?src-supplier=IHS+Markit
footprint CAPC1005X55N
pins: 1, 2

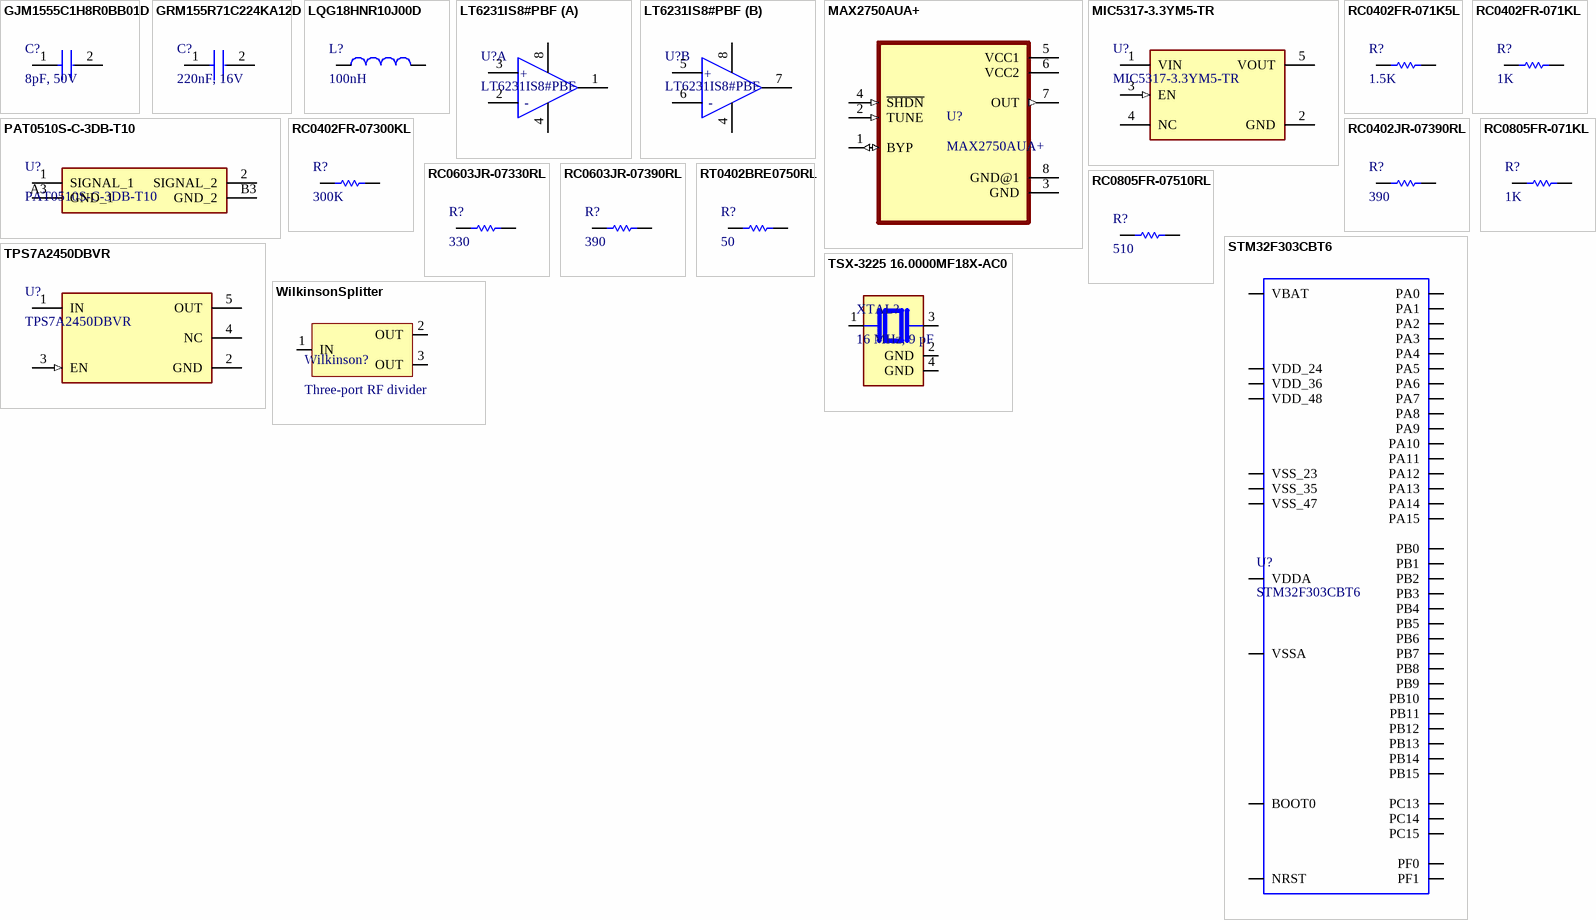
[diagram p1: symbols GJM1555C1H8R0BB01D to WilkinsonSplitter]

## GJM1555C1H8R0BB01D
designator C?, comment 8pF, 50V
Ceramic Capacitor, Multilayer, Ceramic, 50V, 1.25% +Tol, 1.25% -Tol, C0G, 30ppm/Cel TC, 0.000008uF, Surface Mount, 0402; Manufacturer: Murata; Manufacturer Part Number: GJM1555C1H8R0BB01D; Multilayer: Yes; Supplier: Digikey; Supplier Part Number: 490-11238-1-ND; RoHS: Yes; Category: Ceramic Capacitors; Stock: 33111; Pricing: 1=0.1, 10=0.052, 100=0.0307, 1000=0.01991 (USD); Mounting Technology: Surface Mount; Pins: 2; Dielectric Material: Ceramic; Package Shape: Rectangular; Case/Package: 0402; Terminal Finish: Nickel; Min Operating Temperature: -55°C; Max Operating Temperature: 125°C; JESD-609 Code: e3; Value: 8pF; Capacitor Type: Ceramic; Tolerance  (fill in as +-): 1.25%; Package Style: SMTMeter; Packaging: Tape and Reel; Tolerance (fill in as +-): 1.25%; Rated DC Voltage (URdc): 50V; Temperature Characteristics Code: C0G; Termination: Wraparound; Length: 1mm; Width: 0.5mm; Height: 0.5mm; Reach SVHC Compliant: Yes; RoHS Compliant: Yes; ComponentLink1URL: https://datasheet.ciiva.com:443/pdfs/VipMasterIC/IC/MURE/MURE-S-A0004378008/MURE-S-A0004383112-1.pdf?src-supplier=IHS+Markit; ComponentLink1Description: https://datasheet.ciiva.com:443/pdfs/VipMasterIC/IC/MURE/MURE-S-A0004378008/MURE-S-A0004383112-1.pdf?src-supplier=IHS+Markit; ComponentLink2URL: https://datasheet.ciiva.com/11610/product-11610188.pdf?src-supplier=Avnet; ComponentLink2Description: https://datasheet.ciiva.com/11610/product-11610188.pdf?src-supplier=Avnet
footprint CAPC1005X55N
pins: 1, 2

## GRM155R71C224KA12D
designator C?, comment 220nF, 16V
Ceramic Capacitor, Multilayer, Ceramic, 16V, 10% +Tol, 10% -Tol, X7R, 15% TC, 0.22uF, Surface Mount, 0402; Manufacturer: Murata; Manufacturer Part Number: GRM155R71C224KA12D; Multilayer: Yes; Supplier: Digikey; Supplier Part Number: 490-5418-1-ND; RoHS: Yes; Category: Ceramic Capacitors; Stock: 303816; Pricing: 1=0.1, 10=0.027, 50=0.027, 100=0.018, 1000=0.012, 10000=0.008 (USD); Mounting Technology: Surface Mount; Pins: 2; Dielectric Material: Ceramic; Package Shape: Rectangular; Case/Package: 0402; Terminal Finish: Nickel; Min Operating Temperature: -55°C; Max Operating Temperature: 125°C; JESD-609 Code: e3; Value: 220nF; Capacitor Type: Ceramic; Tolerance  (fill in as +-): 10%; Package Style: SMTMeter; Packaging: Tape and Reel; Tolerance (fill in as +-): 10%; Rated DC Voltage (URdc): 16V; Temperature Characteristics Code: X7R; Termination: Wraparound; Length: 1mm; Width: 0.5mm; Height: 0.5mm; Reach SVHC Compliant: Yes; RoHS Compliant: Yes; ComponentLink1URL: https://datasheet.ciiva.com:443/pdfs/VipMasterIC/IC/MURE/MURE-S-A0008911298/MURE-S-A0008911313-1.pdf?src-supplier=IHS+Markit; ComponentLink1Description: https://datasheet.ciiva.com:443/pdfs/VipMasterIC/IC/MURE/MURE-S-A0008911298/MURE-S-A0008911313-1.pdf?src-supplier=IHS+Markit; ComponentLink2URL: https://datasheet.ciiva.com/132/product-132672.pdf?src-supplier=Digikey; ComponentLink2Description: https://datasheet.ciiva.com/132/product-132672.pdf?src-supplier=Digikey; ComponentLink3URL: https://datasheet.ciiva.com/18184/getdatasheetpartid-347270-18184668.pdf?src-supplier=Verical; ComponentLink3Description: https://datasheet.ciiva.com/18184/getdatasheetpartid-347270-18184668.pdf?src-supplier=Verical; ComponentLink4URL: https://datasheet.ciiva.com/29199/454127-da-01-en-vs-kondensator-0402-29199807.pdf?src-supplier=Conrad; ComponentLink4Description: https://datasheet.ciiva.com/29199/454127-da-01-en-vs-kondensator-0402-29199807.pdf?src-supplier=Conrad; ComponentLink5URL: https://datasheet.ciiva.com/132/partnumbering-e-01-132670.pdf?src-supplier=Digikey; ComponentLink5Description: https://datasheet.ciiva.com/132/partnumbering-e-01-132670.pdf?src-supplier=Digikey; ComponentLink6URL: https://datasheet.ciiva.com/132/partnumbering-e-01-132671.pdf?src-supplier=Digikey; ComponentLink6Description: https://datasheet.ciiva.com/132/partnumbering-e-01-132671.pdf?src-supplier=Digikey; ComponentLink7URL: https://datasheet.ciiva.com/48671/product-48671325.pdf?src-supplier=Avnet; ComponentLink7Description: https://datasheet.ciiva.com/48671/product-48671325.pdf?src-supplier=Avnet; ComponentLink8URL: https://datasheet.ciiva.com/16467/product-16467307.pdf?src-supplier=Future+Electronics; ComponentLink8Description: https://datasheet.ciiva.com/16467/product-16467307.pdf?src-supplier=Future+Electronics
footprint FP-GRM155-0_05-IPC_C
pins: 1, 2

## LQG18HNR10J00D
designator L?, comment 100nH
General Purpose Inductor, 0.1uH, 5%, 1 Element, Air-Core, SMD, 0603; Manufacturer: Murata; Manufacturer Part Number: LQG18HNR10J00D; Core Material: Air; Case/Size Code: 0603; DC Resistance (DCR): 900mR; Inductor Application: RF INDUCTOR; Channels: 1; Quality Factor-Min (at L-nom): 12; Max Current Rating: 350mA; Self Resonant Frequency: 800MHz; Shape/Size Description: RECTANGULAR PACKAGE; Shielding: Unshielded; Test Frequency: 100MHz; Package Height: 0.8mm; Package Length: 1.6mm; Supplier: Digikey; Supplier Part Number: 490-6586-1-ND; RoHS: Yes; Category: Fixed Inductors; Stock: 24486; Pricing: 1=0.18, 10=0.144, 50=0.144, 100=0.119, 1000=0.098, 10000=0.066 (USD); Pins: 2; Terminal Finish: Tin; Min Operating Temperature: -40°C; Max Operating Temperature: 85°C; Tolerance: 5%; JESD-609 Code: e3; Construction: Multilayer Chip; Inductance-Nom (L): 0.1uH; Inductor Type: GENERAL PURPOSE INDUCTOR; Package Style: SMTMeter; Packaging: Tape and Reel; Surface Mount: Yes; Terminal Placement: Dual Ended; Termination: Wraparound; Package Width: 0.8mm; Reach SVHC Compliant: Yes; RoHS Compliant: Yes; ComponentLink1URL: https://datasheet.ciiva.com:443/pdfs/VipMasterIC/IC/MURE/MURE-S-A0008911298/MURE-S-A0008911379-1.pdf?src-supplier=IHS+Markit; ComponentLink1Description: https://datasheet.ciiva.com:443/pdfs/VipMasterIC/IC/MURE/MURE-S-A0008911298/MURE-S-A0008911379-1.pdf?src-supplier=IHS+Markit; ComponentLink2URL: https://datasheet.ciiva.com/11801/0900766b80f1087c-11801431.pdf?src-supplier=Rs; ComponentLink2Description: https://datasheet.ciiva.com/11801/0900766b80f1087c-11801431.pdf?src-supplier=Rs; ComponentLink3URL: https://datasheet.ciiva.com/6710/l0075s0083lqg18h-6710060.pdf?src-supplier=Digikey; ComponentLink3Description: https://datasheet.ciiva.com/6710/l0075s0083lqg18h-6710060.pdf?src-supplier=Digikey; ComponentLink4URL: https://datasheet.ciiva.com/6710/l0075s0083lqg18h-6710062.pdf?src-supplier=Digikey; ComponentLink4Description: https://datasheet.ciiva.com/6710/l0075s0083lqg18h-6710062.pdf?src-supplier=Digikey; ComponentLink5URL: https://datasheet.ciiva.com/8002/5102-8002605.pdf?src-supplier=Element14; ComponentLink5Description: https://datasheet.ciiva.com/8002/5102-8002605.pdf?src-supplier=Element14; ComponentLink6URL: https://datasheet.ciiva.com/8002/5102-8002606.pdf?src-supplier=Element14; ComponentLink6Description: https://datasheet.ciiva.com/8002/5102-8002606.pdf?src-supplier=Element14
footprint INDC1608X95N
pins: 1, 2

## LT6231IS8#PBF
designator U?
Operational Amplifier, 2 Func, 550uV Offset-Max, PDSO8; Manufacturer: Analog Devices / Linear Technology; Package Body Material: Plastic; Average Bias Current-Max (IIB): 12uA; Common-mode Reject Ratio-Nom: 95dB; Neg Supply Voltage Limit-Max: -6.3V; Neg Supply Voltage-Nom (Vsup): -5V; Channels: 2; Slew Rate: 260V/µs; Supply Voltage Limit-Max: 6.3V; Nominal Supply Voltage: 5V; Time @ Peak Reflow Temperature-Max (s): 30s; Unity Gain BW-Nom: 215MHz; Qualification Status: Not Qualified; Supplier: Digikey; Supplier Part Number: 505-LT6231IS8#PBF-ND; Manufacturer Part Number: LT6231IS8#PBF; RoHS: Yes; Category: Amplifiers - Op Amps, Buffer, Instrumentation; Stock: 9166; Pricing: 1=7.31, 10=4.917, 25=4.2932, 100=3.7375 (USD); Case/Package: SOP; Pins: 8; Package Shape: Rectangular; Terminal Finish: Tin; Min Operating Temperature: -40°C; Max Operating Temperature: 85°C; JESD-609 Code: e3; Amplifier Type: OPERATIONAL AMPLIFIER; Input Offset Voltage-Max: 550uV; JESD-30 Code: R-PDSO-G8; Moisture Sensitivity Level: 1; Package Style: SMALL OUTLINEMeter; Peak Reflow Temperature (Cel): 260°C; Surface Mount: Yes; Terminal Form: Gull Wing; Terminal Position: DUAL; Length: 4.9mm; Width: 3.9mm; Height - Seated (Max): 1.752mm; Terminal Pitch: 1.27mm; Temperature Grade: INDUSTRIAL; Reach SVHC Compliant: Yes; RoHS Compliant: Yes; ComponentLink1URL: https://datasheet.ciiva.com:443/pdfs/VipMasterIC/IC/LITC/LITCS10845/LITCS10845-1.pdf?src-supplier=IHS+Markit; ComponentLink1Description: https://datasheet.ciiva.com:443/pdfs/VipMasterIC/IC/LITC/LITCS10845/LITCS10845-1.pdf?src-supplier=IHS+Markit; ComponentLink2URL: https://datasheet.ciiva.com/1802/2098-1802952.pdf?src-supplier=Digikey; ComponentLink2Description: https://datasheet.ciiva.com/1802/2098-1802952.pdf?src-supplier=Digikey; ComponentLink3URL: https://datasheet.ciiva.com/22637/1599634-22637797.pdf?src-supplier=Element14; ComponentLink3Description: https://datasheet.ciiva.com/22637/1599634-22637797.pdf?src-supplier=Element14; ComponentLink4URL: https://datasheet.ciiva.com/48705/001255199-da-01-en-ic-op-amp-dual-lt6231is8-pbf-soic-8-ltc-48705643.pdf?src-supplier=Conrad; ComponentLink4Description: https://datasheet.ciiva.com/48705/001255199-da-01-en-ic-op-amp-dual-lt6231is8-pbf-soic-8-ltc-48705643.pdf?src-supplier=Conrad
footprint FP-LT6231IS8#PBF-IPC_C
part A pins: 1 OUT A, 2 -IN A (hiz), 3 +IN A (hiz), 4 V- (power), 8 V+ (power)
part B pins: 4 V- (power), 5 IN B (hiz), 6 -IN B (hiz), 7 OUT B, 8 V+ (power)
part A text: +; -
part B text: +; -

## MAX2750AUA+
designator U?
Voltage Controlled Oscillator, 2370MHz Min, 2470MHz Max; Manufacturer: Maxim; Package Body Material: Plastic; Operating Frequency-Max: 2.47GHz; Operating Frequency-Min: 2.37GHz; Control Voltage-Max: 2.4V; Control Voltage-Min: 400mV; Offset Frequency: 4MHz; Output Power (dBm): -3dBm; Package Equivalence Code: TSSOP8,.19; Phase Noise: -125dBc/Hz; Power Supplies: 3/5V; Max Supply Current: 21mA; Max Supply Voltage: 5.5V; Min Supply Voltage: 2.7V; Qualification Status: Not Qualified; Supplier: Digikey; Supplier Part Number: MAX2750AUA+-ND; Manufacturer Part Number: MAX2750AUA+; RoHS: Yes; Category: Oscillators; Stock: 638; Pricing: 1=8.28, 10=7.191, 50=6.5428, 100=6.29, 250=5.97796, 500=5.7577, 1000=5.5503 (USD); Mounting Technology: Surface Mount; Pins: 8; Terminal Finish: Tin; Min Operating Temperature: -40°C; Max Operating Temperature: 125°C; JESD-609 Code: e3; Oscillator Type: VOLTAGE CONTROLLED OSCILLATOR; Manufacturer Series: MAX2750AUA; Reach SVHC Compliant: Yes; RoHS Compliant: Yes; ComponentLink1URL: https://datasheet.ciiva.com:443/pdfs/VipMasterIC/IC/MAXM/MAXM-S-A0000999237/MAXM-S-A0000999237-1.pdf?src-supplier=IHS+Markit; ComponentLink1Description: https://datasheet.ciiva.com:443/pdfs/VipMasterIC/IC/MAXM/MAXM-S-A0000999237/MAXM-S-A0000999237-1.pdf?src-supplier=IHS+Markit; ComponentLink2URL: https://datasheet.ciiva.com/2796/max2750aua-2796961.pdf?src-supplier=Digikey; ComponentLink2Description: https://datasheet.ciiva.com/2796/max2750aua-2796961.pdf?src-supplier=Digikey; ComponentLink3URL: https://datasheet.ciiva.com/12071/max2750aua-73109-12071954.pdf?src-supplier=Mouser; ComponentLink3Description: https://datasheet.ciiva.com/12071/max2750aua-73109-12071954.pdf?src-supplier=Mouser
footprint SOP65P490X110-8N
pins: 1 BYP (io), 2 TUNE (in), 3 GND (power), 4 ~{SHDN} (in), 5 VCC1 (power), 6 VCC2 (power), 7 OUT (out), 8 GND@1 (power)

## MIC5317-3.3YM5-TR
designator U?
Fixed Positive LDO Regulator, 3.3V, 0.31V Dropout, CMOS, PDSO5; Manufacturer: Microchip; Package Body Material: Plastic; Dropout Voltage1-Max: 310mV; Max Supply Voltage: 6V; Min Input Voltage: 4.3V; Channels: 1; Output Current1-Max: 150mA; Output Voltage1-Max: 3.399V; Output Voltage1-Min: 3.201V; Regulator Type: FIXED POSITIVE SINGLE OUTPUT LDO REGULATOR; Supplier: Digikey; Supplier Part Number: MIC5317-3.3YM5-CT-ND; Manufacturer Part Number: MIC5317-3.3YM5-TR; RoHS: No; Category: Voltage Regulators - Linear; Stock: 26650; Pricing: 1=0.22, 25=0.18, 100=0.16, 3000=0.16 (USD); Case/Package: LSSOP; Pins: 5; Package Shape: Rectangular; JESD-30 Code: R-PDSO-G5; Operating Temperature, TJ-Max: 125°C; Operating Temperature, TJ-Min: -40°C; Output Voltage1-Nom: 3.3V; Package Style: SMALL OUTLINE, LOW PROFILE, SHRINK PITCHMeter; Surface Mount: Yes; Technology: CMOS; Terminal Form: Gull Wing; Terminal Position: DUAL; Length: 2.9mm; Width: 1.6mm; Height - Seated (Max): 1.45mm; Terminal Pitch: 0.95mm; Reach SVHC Compliant: Yes; ComponentLink1URL: https://datasheet.ciiva.com:443/pdfs/VipMasterIC/IC/MCRL/MCRLS06213/MCRLS06213-1.pdf?src-supplier=IHS+Markit; ComponentLink1Description: https://datasheet.ciiva.com:443/pdfs/VipMasterIC/IC/MCRL/MCRLS06213/MCRLS06213-1.pdf?src-supplier=IHS+Markit; ComponentLink2URL: http://components.arrow.com/part/dataview/62845788S774067N1374?src-supplier=Arrow+Electronics; ComponentLink2Description: http://components.arrow.com/part/dataview/62845788S774067N1374?src-supplier=Arrow+Electronics; ComponentLink3URL: http://www.microchip.com/mymicrochip/filehandler.aspx?ddocname=en579427&src-supplier=Digikey; ComponentLink3Description: http://www.microchip.com/mymicrochip/filehandler.aspx?ddocname=en579427&src-supplier=Digikey; ComponentLink4URL: https://datasheet.octopart.com/MIC5317-3.3YM5-TR-Microchip-datasheet-26354330.pdf?src-supplier=Element14; ComponentLink4Description: https://datasheet.octopart.com/MIC5317-3.3YM5-TR-Microchip-datasheet-26354330.pdf?src-supplier=Element14
footprint FP-SOT23-5LD-PL-1-IPC_C
pins: 1 VIN (power), 2 GND (power), 3 EN (in), 4 NC, 5 VOUT (power)

## PAT0510S-C-3DB-T10
designator U?
Fixed Attenuator, 0MHz Min, 10000MHz Max; Manufacturer: Susumu; Attenuation-Nom: 3dB; Characteristic Impedance: 50R; Operating Frequency-Max: 10GHz; VSWR-Max: 1.3; Supplier: Digikey; Supplier Part Number: PAT05S3CT-ND; Manufacturer Part Number: PAT0510S-C-3DB-T10; RoHS: Yes; Category: Chip SMD Resistors; Stock: 205212; Pricing: 1=0.12, 10=0.1, 25=0.0936, 100=0.0853, 250=0.08036, 500=0.07684, 1000=0.07351, 5000=0.06646 (USD); Terminal Finish: Tin; JESD-609 Code: e3; Construction: COMPONENT; Operating Frequency-Min: 0MHz; RF/Microwave Device Type: FIXED ATTENUATOR; Reach SVHC Compliant: Yes; RoHS Compliant: Yes; ComponentLink1URL: https://datasheet.ciiva.com:443/pdfs/VipMasterIC/IC/SUSU/SUSU-S-A0003406171/SUSU-S-A0003406171-1.pdf?src-supplier=IHS+Markit; ComponentLink1Description: https://datasheet.ciiva.com:443/pdfs/VipMasterIC/IC/SUSU/SUSU-S-A0003406171/SUSU-S-A0003406171-1.pdf?src-supplier=IHS+Markit; ComponentLink2URL: https://datasheet.ciiva.com/15101/getdatasheetpartid-506863-15101147.pdf?src-supplier=Verical; ComponentLink2Description: https://datasheet.ciiva.com/15101/getdatasheetpartid-506863-15101147.pdf?src-supplier=Verical; ComponentLink3URL: https://datasheet.ciiva.com/2788/products-38-2788347.pdf?src-supplier=Digikey; ComponentLink3Description: https://datasheet.ciiva.com/2788/products-38-2788347.pdf?src-supplier=Digikey; ComponentLink4URL: https://datasheet.ciiva.com/2788/products-38-2788348.pdf?src-supplier=Digikey; ComponentLink4Description: https://datasheet.ciiva.com/2788/products-38-2788348.pdf?src-supplier=Digikey; ComponentLink5URL: https://datasheet.ciiva.com/2788/products-38-2788349.pdf?src-supplier=Digikey; ComponentLink5Description: https://datasheet.ciiva.com/2788/products-38-2788349.pdf?src-supplier=Digikey
footprint PAT0510SC3DBT10
pins: 1 SIGNAL_1, 2 SIGNAL_2, A3 GND_1, B3 GND_2